# EAGLE library part INSTRUMENTATION_AMP,PGA (library QuantumOptics)
Instrumentation amp with digitally programmable gain, based on Analog Devices AD8253, Gain =1, 10, 100, 1000.
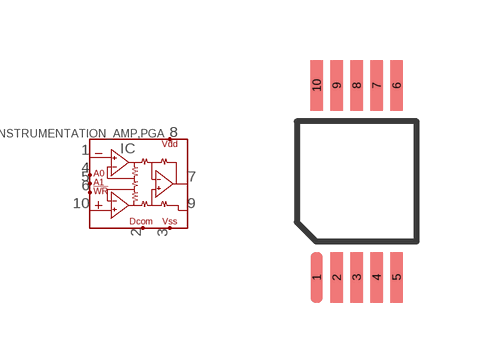
[diagram p169: symbol with the pads of MSOP10; footprint MSOP10]

Designator prefix IC

## INSTRUMENTATION_AMP,PGA-MSOP10  [MSOP10]
1  -IN  in
2  DGND
3  VSS
4  A0  in
5  A1  in
6  !WR  in
7  OUT  out
8  VDD
9  REF
10  +IN  in

## Footprint MSOP10 (pad centres in mm)
MSOP-10 with 4.8mm row spacing. Sameas Maxim's µsop-10.
smd 0.305 x 1.27: 1 -1,-2.4; 2 -0.5,-2.4; 3 0,-2.4; 4 0.5,-2.4; 5 1,-2.4; 6 1,2.4; 7 0.5,2.4; 8 0,2.4; 9 -0.5,2.4; 10 -1,2.4